# EAGLE library part 24AA256-I/MF (library Microchip_By_element14_Batch_1)
EEPROM
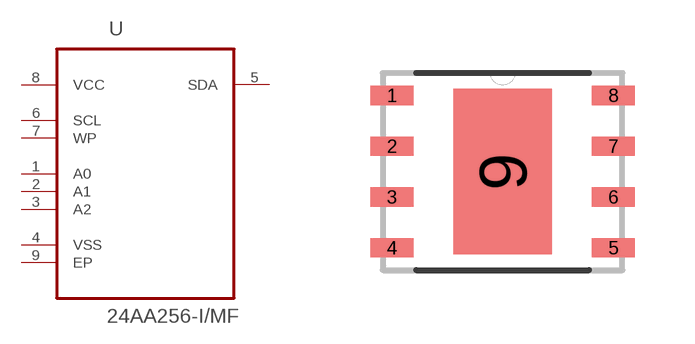
[diagram p8: symbol with the pads of DFN492X599X100-9N; footprint DFN492X599X100-9N]

Designator prefix -

## 24AA256-I/MF (DESCRIPTION: EEPROM; MPN: 24AA256-I/MF; OC_FARNELL: 1331291; OC_NEWARK: 92C6870; PACKAGE: DFN-8; SUPPLIER: MICROCHIP)  [DFN492X599X100-9N]
1  A0  in
2  A1  in
3  A2  in
4  VSS  pas
5  SDA
6  SCL  in
7  WP  in
8  VCC  pwr
9  EP  pas

## Footprint DFN492X599X100-9N (pad centres in mm)
smd 1.067 x 0.483: 1 -2.769,1.905; 2 -2.769,0.635; 3 -2.769,-0.635; 4 -2.769,-1.905; 5 2.769,-1.905; 6 2.769,-0.635; 7 2.769,0.635; 8 2.769,1.905
smd 2.464 x 4.14: 9 0,0